# EAGLE library part IR4427 (library ir)
DUAL LOW SIDE DRIVER Source: ID4426.pdf
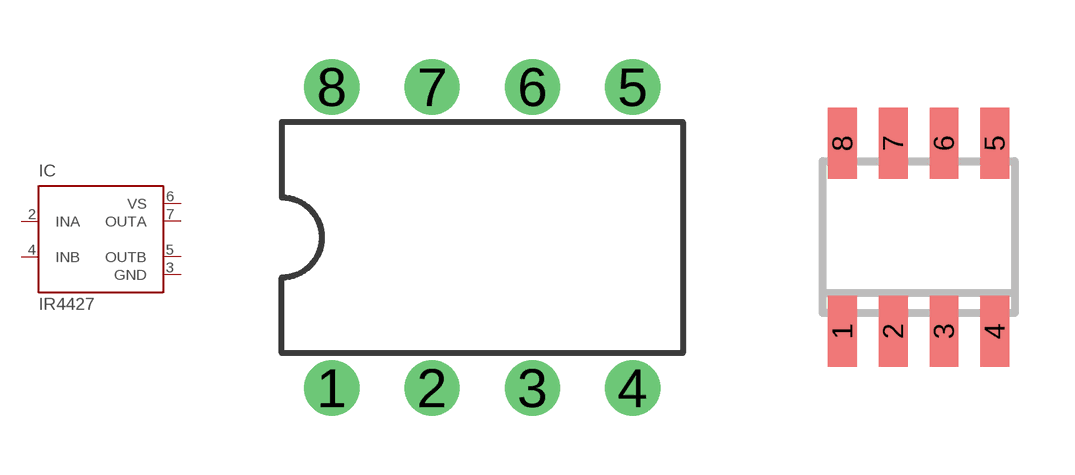
[diagram p5: symbol with the pads of DIL08; footprints DIL08, SO08]

Designator prefix IC

## IR4427 (MF: INTERNATIONAL RECTIFIER(IR); MPN: IR4427; OC_FARNELL: 1023267; OC_NEWARK: 27C6914)  [DIL08]
2  INA  in
3  GND  pwr
4  INB  in
5  OUTB  out
6  VS  pwr
7  OUTA  out

## IR4427S (MF: INTERNATIONAL RECTIFIER(IR); MPN: IR4427STRPBF; OC_FARNELL: 8639094; OC_NEWARK: 63J7933)  [SO08]
Pads as for DIL08

## Footprint DIL08 (pad centres in mm)
Dual In Line Package
drill 0.8 pad 1.4: 1 -3.81,-3.81; 2 -1.27,-3.81; 3 1.27,-3.81; 4 3.81,-3.81; 5 3.81,3.81; 6 1.27,3.81; 7 -1.27,3.81; 8 -3.81,3.81

## Footprint SO08 (pad centres in mm)
8 Lead SOIC Data Sheet No. PD60212 Rev A Source: www.irf.com .. ir2520.pdf
smd 0.72 x 1.78: 1 -1.905,-2.35; 2 -0.635,-2.35; 3 0.635,-2.35; 4 1.905,-2.35; 5 1.905,2.35; 6 0.635,2.35; 7 -0.635,2.35; 8 -1.905,2.35